# Altium schematic symbol library Transistor_FET.SchLib: 598 symbols (part 3 of 6)
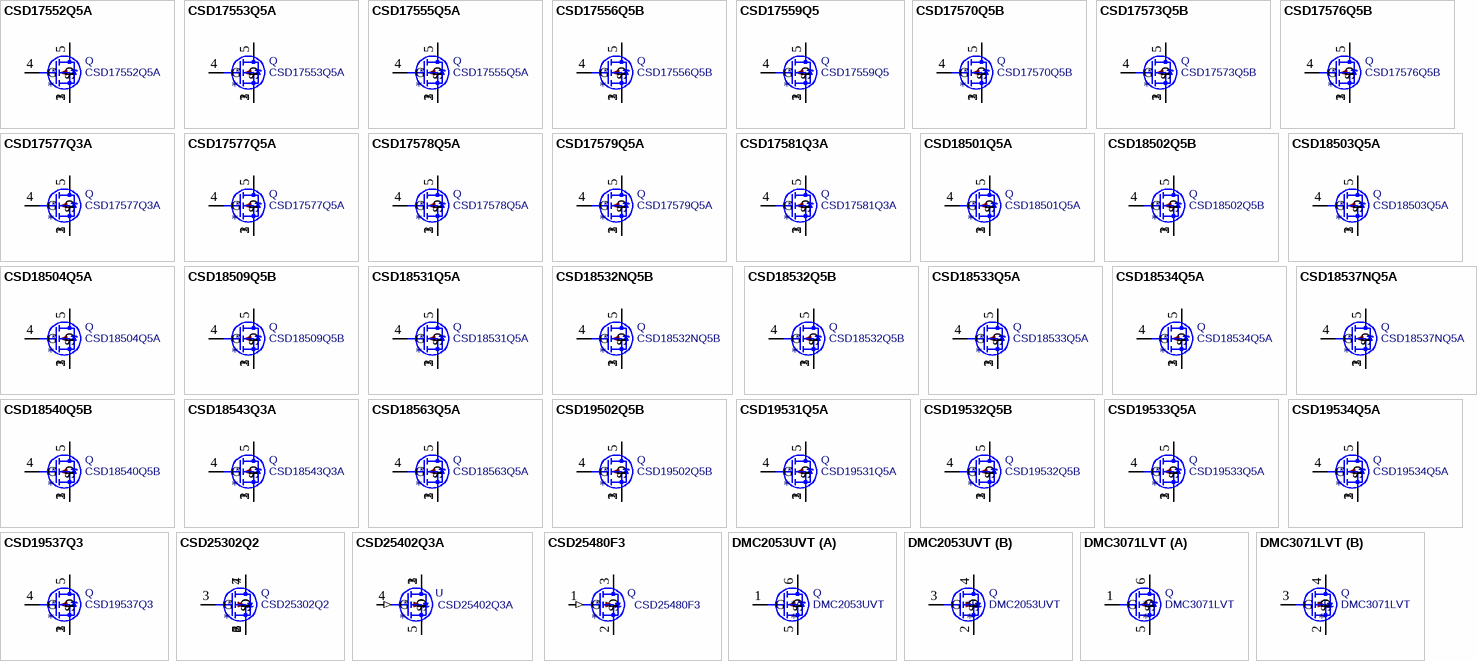
[diagram p18: symbols CSD17552Q5A to DMC3071LVT]

## CSD19502Q5B
designator *  value CSD19502Q5B  Reference: Q
100A Id, 80V Vds, NexFET N-Channel Power MOSFET, 4.1mOhm Ron, 48nC Qg(typ), SON8 5x6mm; ki_keywords: NexFET Power MOSFET N-MOS; ki_fp_filters: TDSON*; Footprint: Package_TO_SOT_SMD:TDSON-8-1; Datasheet: http://www.ti.com/lit/gpn/csd19502q5b; Description_: 100A Id, 80V Vds, NexFET N-Channel Power MOSFET, 4.1mOhm Ron, 48nC Qg(typ), SON8 5x6mm
pins: 1 S, 2 S, 3 S, 4 G, 5 D

## CSD19531Q5A
designator *  value CSD19531Q5A  Reference: Q
100A Id, 100V Vds, NexFET N-Channel Power MOSFET, 6.4mOhm Ron, 37nC Qg(typ), SON8 5x6mm; ki_keywords: NexFET Power MOSFET N-MOS; ki_fp_filters: TDSON*; Footprint: Package_TO_SOT_SMD:TDSON-8-1; Datasheet: http://www.ti.com/lit/gpn/csd19531q5a; Description_: 100A Id, 100V Vds, NexFET N-Channel Power MOSFET, 6.4mOhm Ron, 37nC Qg(typ), SON8 5x6mm
pins: 1 S, 2 S, 3 S, 4 G, 5 D

## CSD19532Q5B
designator *  value CSD19532Q5B  Reference: Q
100A Id, 100V Vds, NexFET N-Channel Power MOSFET, 4.9mOhm Ron, 48nC Qg(typ), SON8 5x6mm; ki_keywords: NexFET Power MOSFET N-MOS; ki_fp_filters: TDSON*; Footprint: Package_TO_SOT_SMD:TDSON-8-1; Datasheet: http://www.ti.com/lit/gpn/csd19532q5b; Description_: 100A Id, 100V Vds, NexFET N-Channel Power MOSFET, 4.9mOhm Ron, 48nC Qg(typ), SON8 5x6mm
pins: 1 S, 2 S, 3 S, 4 G, 5 D

## CSD19533Q5A
designator *  value CSD19533Q5A  Reference: Q
100A Id, 100V Vds, NexFET N-Channel Power MOSFET, 9.5mOhm Ron, 27nC Qg(typ), SON8 5x6mm; ki_keywords: NexFET Power MOSFET N-MOS; ki_fp_filters: TDSON*; Footprint: Package_TO_SOT_SMD:TDSON-8-1; Datasheet: http://www.ti.com/lit/gpn/csd19533q5a; Description_: 100A Id, 100V Vds, NexFET N-Channel Power MOSFET, 9.5mOhm Ron, 27nC Qg(typ), SON8 5x6mm
pins: 1 S, 2 S, 3 S, 4 G, 5 D

## CSD19534Q5A
designator *  value CSD19534Q5A  Reference: Q
50A Id, 100V Vds, NexFET N-Channel Power MOSFET, 15.1mOhm Ron, 17nC Qg(typ), SON8 5x6mm; ki_keywords: NexFET Power MOSFET N-MOS; ki_fp_filters: TDSON*; Footprint: Package_TO_SOT_SMD:TDSON-8-1; Datasheet: http://www.ti.com/lit/gpn/csd19534q5a; Description_: 50A Id, 100V Vds, NexFET N-Channel Power MOSFET, 15.1mOhm Ron, 17nC Qg(typ), SON8 5x6mm
pins: 1 S, 2 S, 3 S, 4 G, 5 D

## CSD19537Q3
designator *  value CSD19537Q3  Reference: Q
50A Id, 100V Vds, NexFET N-Channel Power MOSFET, 13mOhm Ron, Qg Typ 16.0nC, VSON8 3.3x3.3mm; ki_keywords: NexFET Power MOSFET N-MOS; ki_fp_filters: VSON*3.3x3.3mm*P0.65mm*NexFET*; Footprint: Package_SON:VSON-8_3.3x3.3mm_P0.65mm_NexFET; Datasheet: http://www.ti.com/lit/ds/symlink/csd19537q3.pdf; Description_: 50A Id, 100V Vds, NexFET N-Channel Power MOSFET, 13mOhm Ron, Qg Typ 16.0nC, VSON8 3.3x3.3mm
pins: 1 S, 2 S, 3 S, 4 G, 5 D

## CSD25302Q2
designator *  value CSD25302Q2  Reference: Q
-5A Id, -20V Vds, NexFET P-Channel Power MOSFET, 39mOhm Ron, SON-6; ki_keywords: NexFET Power MOSFET P-MOS; ki_fp_filters: Texas*DQK*; Footprint: Package_SON:Texas_DQK; Datasheet: https://www.ti.com/lit/ds/slps234b/slps234b.pdf; Description_: -5A Id, -20V Vds, NexFET P-Channel Power MOSFET, 39mOhm Ron, SON-6
pins: 1 S, 2 S, 3 G, 4 D, 5 S, 6 S, 7 D, 8 S

## CSD25402Q3A
designator *  value CSD25402Q3A  Reference: U
-76A Id, -20V Vds, NexFET P-Channel Power MOSFET, 7.7mOhm Ron, Qg (typ) 7.5 nC, VSON-8 3.3x3.3mm; ki_keywords: P-MOS PMOS single; ki_fp_filters: VSON*3.3x3.3mm*P0.65mm*NexFET*; Footprint: Package_SON:VSON-8_3.3x3.3mm_P0.65mm_NexFET; Datasheet: https://www.ti.com/lit/ds/symlink/csd25402q3a.pdf; Description_: -76A Id, -20V Vds, NexFET P-Channel Power MOSFET, 7.7mOhm Ron, Qg (typ) 7.5 nC, VSON-8 3.3x3.3mm
pins: 1 D, 2 D, 3 D, 4 G (in), 5 S

## CSD25480F3
designator *  value CSD25480F3  Reference: Q
-1.7A Id, -20V Vds, P-Channel MOSFET, 159mOhm Ron,max @ 4.5Vgs, 0.70nC Qg,typ @ 4.5Vgs, PicoStar 0.73x0.64mm max, 0.69x0.60mm nom; ki_keywords: Texas PMOS single; ki_fp_filters: *PicoStar*DFN?3*; Footprint: Package_DFN_QFN:Texas_PicoStar_DFN-3_0.69x0.60mm; Datasheet: https://www.ti.com/lit/ds/symlink/csd25480f3.pdf; Description_: -1.7A Id, -20V Vds, P-Channel MOSFET, 159mOhm Ron,max @ 4.5Vgs, 0.70nC Qg,typ @ 4.5Vgs, PicoStar 0.73x0.64mm max, 0.69x0.60mm nom
pins: 1 G (in), 2 S, 3 D

## DMC2053UVT
designator *  value DMC2053UVT  Reference: Q
4.6A/-3.2A Id, 20V Vds, Complementary pair enhancement mode P-Channel and N-Channel MOSFET, TSOT-23-6; ki_keywords: complementary mosfet; ki_fp_filters: TSOT?23*; Footprint: Package_TO_SOT_SMD:TSOT-23-6; Datasheet: https://www.diodes.com/assets/Datasheets/DMC2053UVT.pdf; Description_: 4.6A/-3.2A Id, 20V Vds, Complementary pair enhancement mode P-Channel and N-Channel MOSFET, TSOT-23-6
part A pins: 1 G, 5 S, 6 D
part B pins: 2 S, 3 G, 4 D

## DMC3071LVT
designator *  value DMC3071LVT  Reference: Q
3.4A/-2.7A Id, 30V Vds, Complementary pair enhancement mode P-Channel and N-Channel MOSFET, TSOT-23-6; ki_keywords: complementary mosfet; ki_fp_filters: TSOT?23*; Footprint: Package_TO_SOT_SMD:TSOT-23-6; Datasheet: https://www.diodes.com/assets/Datasheets/DMC3071LVT.pdf; Description_: 3.4A/-2.7A Id, 30V Vds, Complementary pair enhancement mode P-Channel and N-Channel MOSFET, TSOT-23-6
part A pins: 1 G, 5 S, 6 D
part B pins: 2 S, 3 G, 4 D

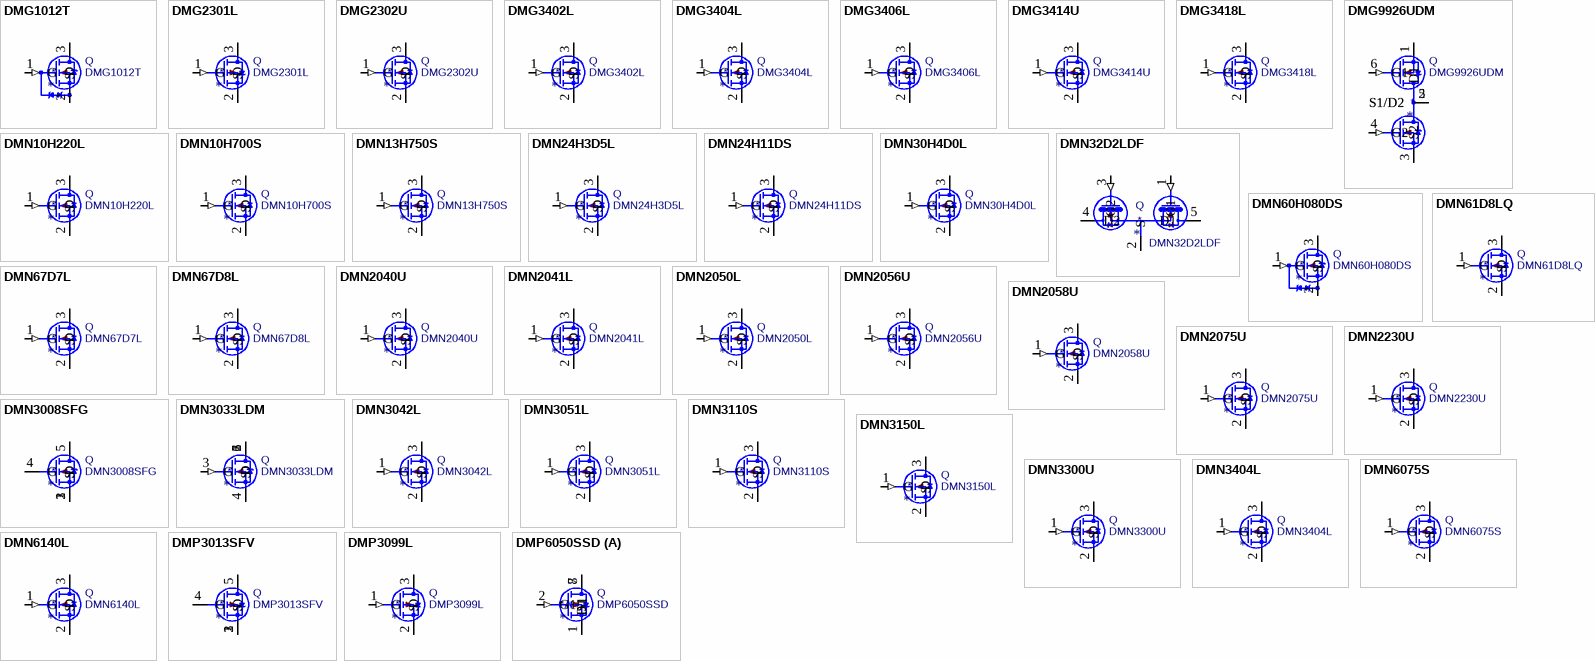
[diagram p6: symbols DMG1012T to DMP6050SSD]

## DMG1012T
designator *  value DMG1012T  Reference: Q
20V Vds, 0.63 Id, N-Channel MOSFET with ESD protection, SOT-523; ki_fp_filters: SOT?523*; Footprint: Package_TO_SOT_SMD:SOT-523; Datasheet: https://www.diodes.com/assets/Datasheets/ds31783.pdf; Description_: 20V Vds, 0.63 Id, N-Channel MOSFET with ESD protection, SOT-523; ki_keywords: N-Channel MOSFET
pins: 1 G (in), 2 S, 3 D

## DMG2301L
designator *  value DMG2301L  Reference: Q
-3A Id, -20V Vds, P-Channel MOSFET, SOT-23; ki_fp_filters: SOT?23*; Footprint: Package_TO_SOT_SMD:SOT-23; Datasheet: https://www.diodes.com/assets/Datasheets/DMG2301L.pdf; Description_: -3A Id, -20V Vds, P-Channel MOSFET, SOT-23; ki_keywords: P-Channel MOSFET
pins: 1 G (in), 2 S, 3 D

## DMG2302U
designator *  value DMG2302U  Reference: Q
4.2A Id, 20V Vds, N-Channel MOSFET, SOT-23; ki_fp_filters: SOT?23*; Footprint: Package_TO_SOT_SMD:SOT-23; Datasheet: http://www.diodes.com/assets/Datasheets/DMG2302U.pdf; Description_: 4.2A Id, 20V Vds, N-Channel MOSFET, SOT-23; ki_keywords: N-Channel MOSFET
pins: 1 G (in), 2 S, 3 D

## DMG3402L
designator *  value DMG3402L  Reference: Q
4A Id, 30V Vds, N-Channel MOSFET, SOT-23; ki_fp_filters: SOT?23*; Footprint: Package_TO_SOT_SMD:SOT-23; Datasheet: http://www.diodes.com/assets/Datasheets/DMG3402L.pdf; Description_: 4A Id, 30V Vds, N-Channel MOSFET, SOT-23; ki_keywords: N-Channel MOSFET
pins: 1 G (in), 2 S, 3 D

## DMG3404L
designator *  value DMG3404L  Reference: Q
5.8A Id, 30V Vds, N-Channel MOSFET, SOT-23; ki_fp_filters: SOT?23*; Footprint: Package_TO_SOT_SMD:SOT-23; Datasheet: http://www.diodes.com/assets/Datasheets/DMG3404L.pdf; Description_: 5.8A Id, 30V Vds, N-Channel MOSFET, SOT-23; ki_keywords: N-Channel MOSFET
pins: 1 G (in), 2 S, 3 D

## DMG3406L
designator *  value DMG3406L  Reference: Q
3.6A Id, 30V Vds, N-Channel MOSFET, SOT-23; ki_fp_filters: SOT?23*; Footprint: Package_TO_SOT_SMD:SOT-23; Datasheet: http://www.diodes.com/assets/Datasheets/DMG3406L.pdf; Description_: 3.6A Id, 30V Vds, N-Channel MOSFET, SOT-23; ki_keywords: N-Channel MOSFET
pins: 1 G (in), 2 S, 3 D

## DMG3414U
designator *  value DMG3414U  Reference: Q
4.2A Id, 20V Vds, N-Channel MOSFET, SOT-23; ki_fp_filters: SOT?23*; Footprint: Package_TO_SOT_SMD:SOT-23; Datasheet: http://www.diodes.com/assets/Datasheets/ds31739.pdf; Description_: 4.2A Id, 20V Vds, N-Channel MOSFET, SOT-23; ki_keywords: N-Channel MOSFET
pins: 1 G (in), 2 S, 3 D

## DMG3418L
designator *  value DMG3418L  Reference: Q
4A Id, 30V Vds, N-Channel MOSFET, SOT-23; ki_fp_filters: SOT?23*; Footprint: Package_TO_SOT_SMD:SOT-23; Datasheet: http://www.diodes.com/assets/Datasheets/DMG3418L.pdf; Description_: 4A Id, 30V Vds, N-Channel MOSFET, SOT-23; ki_keywords: N-Channel MOSFET
pins: 1 G (in), 2 S, 3 D

## DMG9926UDM
designator *  value DMG9926UDM  Reference: Q
4.2A Id, 20V Vds, Common-Drain, Dual Half Bridge N-Channel MOSFET, 28mOhm Ron, SOT-23-6; ki_keywords: Dual Half Bridge N-Channel MOSFET Logic Level Common Drain; ki_fp_filters: SOT?23*; Footprint: Package_TO_SOT_SMD:SOT-23-6; Datasheet: https://www.diodes.com/assets/Datasheets/ds31770.pdf; Description_: 4.2A Id, 20V Vds, Common-Drain, Dual Half Bridge N-Channel MOSFET, 28mOhm Ron, SOT-23-6
pins: 1 D1, 2 S1/D2, 3 S2, 4 G2 (in), 5 S1/D2, 6 G1 (in)

## DMN10H220L
designator *  value DMN10H220L  Reference: Q
1.6A Id, 100V Vds, N-Channel MOSFET, SOT-23; ki_fp_filters: SOT?23*; Footprint: Package_TO_SOT_SMD:SOT-23; Datasheet: http://www.diodes.com/assets/Datasheets/DMN10H220L.pdf; Description_: 1.6A Id, 100V Vds, N-Channel MOSFET, SOT-23; ki_keywords: N-Channel MOSFET
pins: 1 G (in), 2 S, 3 D

## DMN10H700S
designator *  value DMN10H700S  Reference: Q
0.7A Id, 100V Vds, N-Channel MOSFET, SOT-23; ki_fp_filters: SOT?23*; Footprint: Package_TO_SOT_SMD:SOT-23; Datasheet: http://www.diodes.com/assets/Datasheets/DMN10H700S.pdf; Description_: 0.7A Id, 100V Vds, N-Channel MOSFET, SOT-23; ki_keywords: N-Channel MOSFET
pins: 1 G (in), 2 S, 3 D

## DMN13H750S
designator *  value DMN13H750S  Reference: Q
1A Id, 130V Vds, N-Channel MOSFET, SOT-23; ki_fp_filters: SOT?23*; Footprint: Package_TO_SOT_SMD:SOT-23; Datasheet: http://www.diodes.com/assets/Datasheets/DMN13H750S.pdf; Description_: 1A Id, 130V Vds, N-Channel MOSFET, SOT-23; ki_keywords: N-Channel MOSFET
pins: 1 G (in), 2 S, 3 D

## DMN24H3D5L
designator *  value DMN24H3D5L  Reference: Q
0.48A Id, 240V Vds, N-Channel MOSFET, SOT-23; ki_fp_filters: SOT?23*; Footprint: Package_TO_SOT_SMD:SOT-23; Datasheet: http://www.diodes.com/assets/Datasheets/DMN24H3D5L.pdf; Description_: 0.48A Id, 240V Vds, N-Channel MOSFET, SOT-23; ki_keywords: N-Channel MOSFET
pins: 1 G (in), 2 S, 3 D

## DMN24H11DS
designator *  value DMN24H11DS  Reference: Q
0.27A Id, 240V Vds, N-Channel MOSFET, SOT-23; ki_fp_filters: SOT?23*; Footprint: Package_TO_SOT_SMD:SOT-23; Datasheet: http://www.diodes.com/assets/Datasheets/DMN24H11DS.pdf; Description_: 0.27A Id, 240V Vds, N-Channel MOSFET, SOT-23; ki_keywords: N-Channel MOSFET
pins: 1 G (in), 2 S, 3 D

## DMN30H4D0L
designator *  value DMN30H4D0L  Reference: Q
0.25A Id, 300V Vds, N-Channel MOSFET, SOT-23; ki_fp_filters: SOT?23*; Footprint: Package_TO_SOT_SMD:SOT-23; Datasheet: http://www.diodes.com/assets/Datasheets/DMN30H4D0L.pdf; Description_: 0.25A Id, 300V Vds, N-Channel MOSFET, SOT-23; ki_keywords: N-Channel MOSFET
pins: 1 G (in), 2 S, 3 D

## DMN32D2LDF
designator *  value DMN32D2LDF  Reference: Q
Common Source Dual 400mA Id, 30V Vds, N-Channel MOSFET, 1.5Ohm Ron, SOT-353; ki_keywords: N-FET; ki_fp_filters: SOT?353*; Footprint: Package_TO_SOT_SMD:SOT-353_SC-70-5; Datasheet: https://www.diodes.com/assets/Datasheets/ds31238.pdf; Description_: Common Source Dual 400mA Id, 30V Vds, N-Channel MOSFET, 1.5Ohm Ron, SOT-353
pins: 1 G1 (in), 2 S, 3 G2 (in), 4 D2, 5 D1

## DMN60H080DS
designator *  value DMN60H080DS  Reference: Q
600V Vds, 80mA Id, N-Channel MOSFET with ESD protection, SOT-23; ki_fp_filters: SOT?23*; Footprint: Package_TO_SOT_SMD:SOT-23; Datasheet: https://www.diodes.com/assets/Datasheets/DMN60H080DS.pdf; Description_: 600V Vds, 80mA Id, N-Channel MOSFET with ESD protection, SOT-23; ki_keywords: N-Channel MOSFET
pins: 1 G (in), 2 S, 3 D

## DMN61D8LQ
designator *  value DMN61D8LQ  Reference: Q
60V Vds, 0.470A Id, N-Channel MOSFET for switching inductive loads , SOT-23; ki_keywords: N-Channel MOSFET relay logic-level; ki_fp_filters: SOT?23*; Footprint: Package_TO_SOT_SMD:SOT-23; Datasheet: https://www.diodes.com/assets/Datasheets/DMN61D8LQ.pdf; Description_: 60V Vds, 0.470A Id, N-Channel MOSFET for switching inductive loads , SOT-23
pins: 1 G (in), 2 S, 3 D

## DMN67D7L
designator *  value DMN67D7L  Reference: Q
0.21A Id, 60V Vds, N-Channel MOSFET, SOT-23; ki_fp_filters: SOT?23*; Footprint: Package_TO_SOT_SMD:SOT-23; Datasheet: http://www.diodes.com/assets/Datasheets/DMN67D7L.pdf; Description_: 0.21A Id, 60V Vds, N-Channel MOSFET, SOT-23; ki_keywords: N-Channel MOSFET
pins: 1 G (in), 2 S, 3 D

## DMN67D8L
designator *  value DMN67D8L  Reference: Q
0.21A Id, 60V Vds, N-Channel MOSFET, SOT-23; ki_fp_filters: SOT?23*; Footprint: Package_TO_SOT_SMD:SOT-23; Datasheet: http://www.diodes.com/assets/Datasheets/DMN67D8L.pdf; Description_: 0.21A Id, 60V Vds, N-Channel MOSFET, SOT-23; ki_keywords: N-Channel MOSFET
pins: 1 G (in), 2 S, 3 D

## DMN2040U
designator *  value DMN2040U  Reference: Q
20V Vds, 6A Id, N-Channel MOSFET, SOT-23; ki_fp_filters: SOT?23*; Footprint: Package_TO_SOT_SMD:SOT-23; Datasheet: https://www.diodes.com/assets/Datasheets/DMN2040U.pdf; Description_: 20V Vds, 6A Id, N-Channel MOSFET, SOT-23; ki_keywords: N-Channel MOSFET
pins: 1 G (in), 2 S, 3 D

## DMN2041L
designator *  value DMN2041L  Reference: Q
6.4A Id, 20V Vds, N-Channel MOSFET, SOT-23; ki_fp_filters: SOT?23*; Footprint: Package_TO_SOT_SMD:SOT-23; Datasheet: https://www.diodes.com/assets/Datasheets/products_inactive_data/DMN2041L.pdf; Description_: 6.4A Id, 20V Vds, N-Channel MOSFET, SOT-23; ki_keywords: N-Channel MOSFET
pins: 1 G (in), 2 S, 3 D

## DMN2050L
designator *  value DMN2050L  Reference: Q
5.9A Id, 20V Vds, N-Channel MOSFET, SOT-23; ki_fp_filters: SOT?23*; Footprint: Package_TO_SOT_SMD:SOT-23; Datasheet: http://www.diodes.com/assets/Datasheets/ds31502.pdf; Description_: 5.9A Id, 20V Vds, N-Channel MOSFET, SOT-23; ki_keywords: N-Channel MOSFET
pins: 1 G (in), 2 S, 3 D

## DMN2056U
designator *  value DMN2056U  Reference: Q
4A Id, 20V Vds, N-Channel MOSFET, SOT-23; ki_fp_filters: SOT?23*; Footprint: Package_TO_SOT_SMD:SOT-23; Datasheet: http://www.diodes.com/assets/Datasheets/DMN2056U.pdf; Description_: 4A Id, 20V Vds, N-Channel MOSFET, SOT-23; ki_keywords: N-Channel MOSFET
pins: 1 G (in), 2 S, 3 D

## DMN2058U
designator *  value DMN2058U  Reference: Q
4.6A Id, 20V Vds, N-Channel MOSFET, SOT-23; ki_fp_filters: SOT?23*; Footprint: Package_TO_SOT_SMD:SOT-23; Datasheet: http://www.diodes.com/assets/Datasheets/DMN2058U.pdf; Description_: 4.6A Id, 20V Vds, N-Channel MOSFET, SOT-23; ki_keywords: N-Channel MOSFET
pins: 1 G (in), 2 S, 3 D

## DMN2075U
designator *  value DMN2075U  Reference: Q
4.2A Id, 20V Vds, N-Channel MOSFET, SOT-23; ki_fp_filters: SOT?23*; Footprint: Package_TO_SOT_SMD:SOT-23; Datasheet: http://www.diodes.com/assets/Datasheets/DMN2075U.pdf; Description_: 4.2A Id, 20V Vds, N-Channel MOSFET, SOT-23; ki_keywords: N-Channel MOSFET
pins: 1 G (in), 2 S, 3 D

## DMN2230U
designator *  value DMN2230U  Reference: Q
2A Id, 20V Vds, N-Channel MOSFET, SOT-23; ki_fp_filters: SOT?23*; Footprint: Package_TO_SOT_SMD:SOT-23; Datasheet: http://www.diodes.com/assets/Datasheets/ds31180.pdf; Description_: 2A Id, 20V Vds, N-Channel MOSFET, SOT-23; ki_keywords: N-Channel MOSFET
pins: 1 G (in), 2 S, 3 D

## DMN3008SFG
designator *  value DMN3008SFG  Reference: Q
17.6A Id, 30V Vds, N-Channel Power MOSFET, 4.4mOhm Ron, 86nC Qg (typ), PowerDI3333-8; ki_keywords: N-Channel MOSFET; ki_fp_filters: Diodes*PowerDI3333*; Footprint: Package_SON:Diodes_PowerDI3333-8; Datasheet: https://www.diodes.com/assets/Datasheets/DMN3008SFG.pdf; Description_: 17.6A Id, 30V Vds, N-Channel Power MOSFET, 4.4mOhm Ron, 86nC Qg (typ), PowerDI3333-8
pins: 1 S, 2 S, 3 S, 4 G, 5 D

## DMN3033LDM
designator *  value DMN3033LDM  Reference: Q
6.9A Id, 30V Vds, N-Channel MOSFET, SOT-23-6; ki_fp_filters: SOT?23*; Footprint: Package_TO_SOT_SMD:SOT-23-6; Datasheet: https://www.diodes.com/assets/Datasheets/ds31345.pdf; Description_: 6.9A Id, 30V Vds, N-Channel MOSFET, SOT-23-6; ki_keywords: N-Channel MOSFET
pins: 1 D, 2 D, 3 G (in), 4 S, 5 D, 6 D

## DMN3042L
designator *  value DMN3042L  Reference: Q
5.8A Id, 30V Vds, N-Channel MOSFET, SOT-23; ki_fp_filters: SOT?23*; Footprint: Package_TO_SOT_SMD:SOT-23; Datasheet: http://www.diodes.com/assets/Datasheets/DMN3042L.pdf; Description_: 5.8A Id, 30V Vds, N-Channel MOSFET, SOT-23; ki_keywords: N-Channel MOSFET
pins: 1 G (in), 2 S, 3 D

## DMN3051L
designator *  value DMN3051L  Reference: Q
5.8A Id, 30V Vds, N-Channel MOSFET, SOT-23; ki_fp_filters: SOT?23*; Footprint: Package_TO_SOT_SMD:SOT-23; Datasheet: http://www.diodes.com/assets/Datasheets/ds31347.pdf; Description_: 5.8A Id, 30V Vds, N-Channel MOSFET, SOT-23; ki_keywords: N-Channel MOSFET
pins: 1 G (in), 2 S, 3 D

## DMN3110S
designator *  value DMN3110S  Reference: Q
3.3A Id, 30V Vds, N-Channel MOSFET, SOT-23; ki_fp_filters: SOT?23*; Footprint: Package_TO_SOT_SMD:SOT-23; Datasheet: http://www.diodes.com/assets/Datasheets/DMN3110S.pdf; Description_: 3.3A Id, 30V Vds, N-Channel MOSFET, SOT-23; ki_keywords: N-Channel MOSFET
pins: 1 G (in), 2 S, 3 D

## DMN3150L
designator *  value DMN3150L  Reference: Q
3.8A Id, 30V Vds, N-Channel MOSFET, SOT-23; ki_fp_filters: SOT?23*; Footprint: Package_TO_SOT_SMD:SOT-23; Datasheet: http://www.diodes.com/assets/Datasheets/ds31126.pdf; Description_: 3.8A Id, 30V Vds, N-Channel MOSFET, SOT-23; ki_keywords: N-Channel MOSFET
pins: 1 G (in), 2 S, 3 D

## DMN3300U
designator *  value DMN3300U  Reference: Q
2A Id, 30V Vds, N-Channel MOSFET, SOT-23; ki_fp_filters: SOT?23*; Footprint: Package_TO_SOT_SMD:SOT-23; Datasheet: http://www.diodes.com/assets/Datasheets/ds31181.pdf; Description_: 2A Id, 30V Vds, N-Channel MOSFET, SOT-23; ki_keywords: N-Channel MOSFET
pins: 1 G (in), 2 S, 3 D

## DMN3404L
designator *  value DMN3404L  Reference: Q
5.8A Id, 30V Vds, N-Channel MOSFET, SOT-23; ki_fp_filters: SOT?23*; Footprint: Package_TO_SOT_SMD:SOT-23; Datasheet: http://www.diodes.com/assets/Datasheets/ds31787.pdf; Description_: 5.8A Id, 30V Vds, N-Channel MOSFET, SOT-23; ki_keywords: N-Channel MOSFET
pins: 1 G (in), 2 S, 3 D

## DMN6075S
designator *  value DMN6075S  Reference: Q
2.5A Id, 60V Vds, N-Channel MOSFET, SOT-23; ki_fp_filters: SOT?23*; Footprint: Package_TO_SOT_SMD:SOT-23; Datasheet: http://www.diodes.com/assets/Datasheets/DMN6075S.pdf; Description_: 2.5A Id, 60V Vds, N-Channel MOSFET, SOT-23; ki_keywords: N-Channel MOSFET
pins: 1 G (in), 2 S, 3 D

## DMN6140L
designator *  value DMN6140L  Reference: Q
2.3A Id, 60V Vds, N-Channel MOSFET, SOT-23; ki_fp_filters: SOT?23*; Footprint: Package_TO_SOT_SMD:SOT-23; Datasheet: http://www.diodes.com/assets/Datasheets/DMN6140L.pdf; Description_: 2.3A Id, 60V Vds, N-Channel MOSFET, SOT-23; ki_keywords: N-Channel MOSFET
pins: 1 G (in), 2 S, 3 D

## DMP3013SFV
designator *  value DMP3013SFV  Reference: Q
-12A Id, -30V Vds, P-Channel Power MOSFET, 9.5mOhm Ron, 33.7nC Qg (typ), PowerDI3333-8; ki_keywords: P-Channel MOSFET; ki_fp_filters: Diodes*PowerDI3333*; Footprint: Package_SON:Diodes_PowerDI3333-8; Datasheet: https://www.diodes.com/assets/Datasheets/DMP3013SFV.pdf; Description_: -12A Id, -30V Vds, P-Channel Power MOSFET, 9.5mOhm Ron, 33.7nC Qg (typ), PowerDI3333-8
pins: 1 S, 2 S, 3 S, 4 G, 5 D

## DMP3099L
designator *  value DMP3099L  Reference: Q
-3.8A Id, -30V Vds, P-Channel MOSFET, SOT-23; ki_fp_filters: SOT?23*; Footprint: Package_TO_SOT_SMD:SOT-23; Datasheet: https://www.diodes.com/assets/Datasheets/DMP3099L.pdf; Description_: -3.8A Id, -30V Vds, P-Channel MOSFET, SOT-23; ki_keywords: P-Channel MOSFET
pins: 1 G (in), 2 S, 3 D

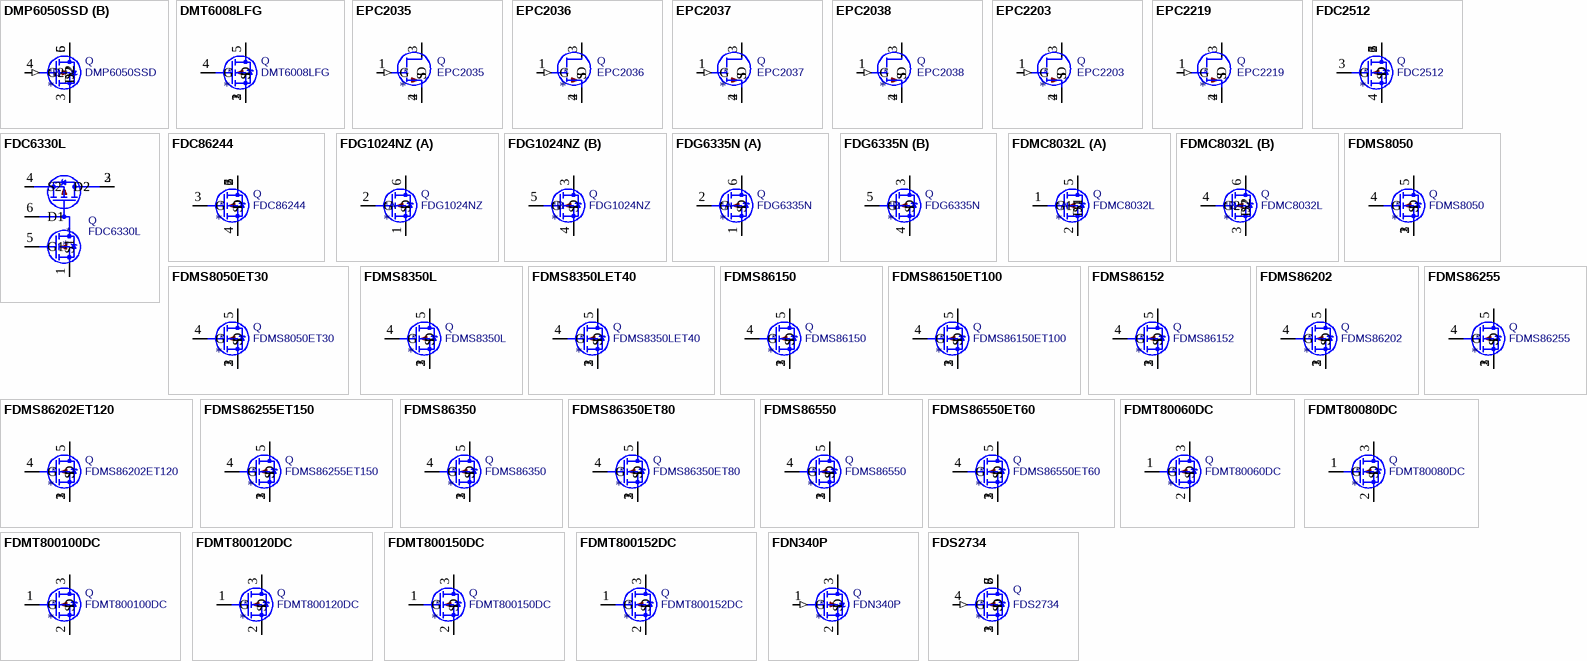
[diagram p7: symbols DMP6050SSD to FDS2734]

## DMP6050SSD
designator *  value DMP6050SSD  Reference: Q
-11.3A Id, -60V Vds, P-Channel Power MOSFET, 55mOhm Ron, 11.9nC Qg (typ), SO-8; ki_keywords: Dual PMOS P-MOS; ki_fp_filters: SOIC*3.9x4.9mm*P1.27mm*; Footprint: Package_SO:SOIC-8_3.9x4.9mm_P1.27mm; Datasheet: https://www.diodes.com/assets/Datasheets/DMP6050SSD.pdf; Description_: -11.3A Id, -60V Vds, P-Channel Power MOSFET, 55mOhm Ron, 11.9nC Qg (typ), SO-8
part A pins: 1 S1, 2 G1 (in), 7 D1, 8 D1
part B pins: 3 S2, 4 G2 (in), 5 D2, 6 D2

## DMT6008LFG
designator *  value DMT6008LFG  Reference: Q
60A Id, 60V Vds, N-Channel Enhancement Mode MOSFET, 7.5mOhm Ron, 50.4nC Qg(typ), PowerDI-3333-8; ki_keywords: Power MOSFET N-MOS; ki_fp_filters: Diodes*PowerDI3333*; Footprint: Package_SON:Diodes_PowerDI3333-8; Datasheet: https://www.diodes.com/assets/Datasheets/DMT6008LFG.pdf; Description_: 60A Id, 60V Vds, N-Channel Enhancement Mode MOSFET, 7.5mOhm Ron, 50.4nC Qg(typ), PowerDI-3333-8
pins: 1 S, 2 S, 3 S, 4 G, 5 D

## EPC2035
designator *  value EPC2035  Reference: Q
60 V E-mode GaN transistor, RdsOn 45 mOhm, 1.7A Id, EPC_BGA-4_0.9x0.9mm; ki_keywords: hemt enhancement; ki_fp_filters: EPC?BGA*0.9x0.9mm?Layout2x2?P0.45mm*; Footprint: Package_BGA:EPC_BGA-4_0.9x0.9mm_Layout2x2_P0.45mm; Datasheet: https://epc-co.com/epc/Portals/0/epc/documents/datasheets/EPC2035_datasheet.pdf; Description_: 60 V E-mode GaN transistor, RdsOn 45 mOhm, 1.7A Id, EPC_BGA-4_0.9x0.9mm
pins: 1 G (in), 2 S, 3 D, 4 S

## EPC2036
designator *  value EPC2036  Reference: Q
100 V E-mode GaN transistor, RdsOn 73 mOhm, 1.7A Id, EPC_BGA-4_0.9x0.9mm; ki_keywords: hemt enhancement; ki_fp_filters: EPC?BGA*0.9x0.9mm?Layout2x2?P0.45mm*; Footprint: Package_BGA:EPC_BGA-4_0.9x0.9mm_Layout2x2_P0.45mm; Datasheet: https://epc-co.com/epc/Portals/0/epc/documents/datasheets/EPC2036_datasheet.pdf; Description_: 100 V E-mode GaN transistor, RdsOn 73 mOhm, 1.7A Id, EPC_BGA-4_0.9x0.9mm
pins: 1 G (in), 2 S, 3 D, 4 S

## EPC2037
designator *  value EPC2037  Reference: Q
100 V E-mode GaN transistor, RdsOn 550 mOhm, 1.7A Id, EPC_BGA-4_0.9x0.9mm; ki_keywords: hemt enhancement; ki_fp_filters: EPC?BGA*0.9x0.9mm?Layout2x2?P0.45mm*; Footprint: Package_BGA:EPC_BGA-4_0.9x0.9mm_Layout2x2_P0.45mm; Datasheet: https://epc-co.com/epc/Portals/0/epc/documents/datasheets/EPC2037_datasheet.pdf; Description_: 100 V E-mode GaN transistor, RdsOn 550 mOhm, 1.7A Id, EPC_BGA-4_0.9x0.9mm
pins: 1 G (in), 2 S, 3 D, 4 S

## EPC2038
designator *  value EPC2038  Reference: Q
100 V E-mode GaN transistor, RdsOn 3.3 Ohm, 0.5A Id, Integrated Reverse Gate Clamp Diode, EPC_BGA-4_0.9x0.9mm; ki_keywords: hemt enhancement; ki_fp_filters: EPC?BGA*0.9x0.9mm?Layout2x2?P0.45mm*; Footprint: Package_BGA:EPC_BGA-4_0.9x0.9mm_Layout2x2_P0.45mm; Datasheet: https://epc-co.com/epc/Portals/0/epc/documents/datasheets/EPC2038_datasheet.pdf; Description_: 100 V E-mode GaN transistor, RdsOn 3.3 Ohm, 0.5A Id, Integrated Reverse Gate Clamp Diode, EPC_BGA-4_0.9x0.9mm
pins: 1 G (in), 2 S, 3 D, 4 S

## EPC2203
designator *  value EPC2203  Reference: Q
80 V E-mode GaN transistor, RdsOn 80 mOhm, 1.7A Id, EPC_BGA-4_0.9x0.9mm; ki_keywords: hemt enhancement; ki_fp_filters: EPC?BGA*0.9x0.9mm?Layout2x2?P0.45mm*; Footprint: Package_BGA:EPC_BGA-4_0.9x0.9mm_Layout2x2_P0.45mm; Datasheet: https://epc-co.com/epc/Portals/0/epc/documents/datasheets/EPC2203_datasheet.pdf; Description_: 80 V E-mode GaN transistor, RdsOn 80 mOhm, 1.7A Id, EPC_BGA-4_0.9x0.9mm
pins: 1 G (in), 2 S, 3 D, 4 S

## EPC2219
designator *  value EPC2219  Reference: Q
65 V E-mode GaN transistor, RdsOn 3.3 Ohm, 0.5A Id, Integrated Reverse Gate Clamp Diode, EPC_BGA-4_0.9x0.9mm; ki_keywords: hemt enhancement; ki_fp_filters: EPC?BGA*0.9x0.9mm?Layout2x2?P0.45mm*; Footprint: Package_BGA:EPC_BGA-4_0.9x0.9mm_Layout2x2_P0.45mm; Datasheet: https://epc-co.com/epc/Portals/0/epc/documents/datasheets/EPC2219_datasheet.pdf; Description_: 65 V E-mode GaN transistor, RdsOn 3.3 Ohm, 0.5A Id, Integrated Reverse Gate Clamp Diode, EPC_BGA-4_0.9x0.9mm
pins: 1 G (in), 2 S, 3 D, 4 S

## FDC2512
designator *  value FDC2512  Reference: Q
1.4A Id, 150V Vds, N-Channel MOSFET, 425mOhm Ron, SuperSOT-6; ki_fp_filters: SuperSOT*; Footprint: Package_TO_SOT_SMD:SuperSOT-6; Datasheet: https://www.onsemi.com/pub/Collateral/FDC2512-D.pdf; Description_: 1.4A Id, 150V Vds, N-Channel MOSFET, 425mOhm Ron, SuperSOT-6; ki_keywords: N-Channel MOSFET
pins: 1 D, 2 D, 3 G, 4 S, 5 D, 6 D

## FDC6330L
designator *  value FDC6330L  Reference: Q
-2.3A, 20V Vds, Integrated load switch, P-Channel MOSFET driven by small N-Channel MOSFET, TSOT-23-6; ki_keywords: complementary mosfet; ki_fp_filters: TSOT?23*; Footprint: Package_TO_SOT_SMD:TSOT-23-6; Datasheet: https://www.onsemi.com/pub/Collateral/FDC6330L-D.PDF; Description_: -2.3A, 20V Vds, Integrated load switch, P-Channel MOSFET driven by small N-Channel MOSFET, TSOT-23-6
pins: 1 S1, 2 D2, 3 D2, 4 S2, 5 G1, 6 D1

## FDC86244
designator *  value FDC86244  Reference: Q
2.3A Id, 150V Vds, N-Channel MOSFET, 144mOhm Ron, SuperSOT-6; ki_fp_filters: SuperSOT*; Footprint: Package_TO_SOT_SMD:SuperSOT-6; Datasheet: https://www.onsemi.com/pub/Collateral/FDC86244-D.pdf; Description_: 2.3A Id, 150V Vds, N-Channel MOSFET, 144mOhm Ron, SuperSOT-6; ki_keywords: N-Channel MOSFET
pins: 1 D, 2 D, 3 G, 4 S, 5 D, 6 D

## FDG1024NZ
designator *  value FDG1024NZ  Reference: Q
1.2A Id, 20V Vds, Dual N-Channel MOSFET, 175mOhm Ron, SC-70-6; ki_keywords: Dual N-Channel MOSFET Logic Level; ki_fp_filters: SOT?363*; Footprint: Package_TO_SOT_SMD:SOT-363_SC-70-6; Datasheet: https://www.onsemi.com/pub/Collateral/FDG1024NZ-D.pdf; Description_: 1.2A Id, 20V Vds, Dual N-Channel MOSFET, 175mOhm Ron, SC-70-6
part A pins: 1 S, 2 G, 6 D
part B pins: 3 D, 4 S, 5 G

## FDG6335N
designator *  value FDG6335N  Reference: Q
0.7A Id, 20V Vds, Dual N-Channel MOSFET, 300mOhm Ron, SC-70-6; ki_fp_filters: SOT?363*; Footprint: Package_TO_SOT_SMD:SOT-363_SC-70-6; Datasheet: http://www.gneic.com/product/datasheet/FDG6335N-1122853.pdf; Description_: 0.7A Id, 20V Vds, Dual N-Channel MOSFET, 300mOhm Ron, SC-70-6; ki_keywords: Dual N-Channel MOSFET
part A pins: 1 S, 2 G, 6 D
part B pins: 3 D, 4 S, 5 G

## FDMC8032L
designator *  value FDMC8032L  Reference: Q
7A Id, 40V Vds, Dual N-Channel MOSFET, 20mOhm Ron, Power33 Package; ki_fp_filters: Fairchild*DualPower33*3x3mm*; Footprint: Package_SON:Fairchild_DualPower33-6_3x3mm; Datasheet: https://www.onsemi.com/pub/Collateral/FDMC8032L-D.PDF; Description_: 7A Id, 40V Vds, Dual N-Channel MOSFET, 20mOhm Ron, Power33 Package; ki_keywords: Dual N-Channel MOSFET
part A pins: 1 G1, 2 S1, 5 D1
part B pins: 3 S2, 4 G2, 6 D2

## FDMS8050
designator *  value FDMS8050  Reference: Q
55A Id, 30V Vds, N-Channel PowerTrench MOSFET, 0.65mOhm Ron, 285nC Qgmax, -55 to 150 °C, 5x6mm SON8; ki_keywords: powertrench MOSFET fairchild; ki_fp_filters: TDSON*; Footprint: Package_TO_SOT_SMD:TDSON-8-1; Datasheet: https://www.onsemi.com/pub/Collateral/FDMS8050-D.pdf; Description_: 55A Id, 30V Vds, N-Channel PowerTrench MOSFET, 0.65mOhm Ron, 285nC Qgmax, -55 to 150 °C, 5x6mm SON8
pins: 1 S, 2 S, 3 S, 4 G, 5 D

## FDMS8050ET30
designator *  value FDMS8050ET30  Reference: Q
55A Id, 30V Vds, N-Channel PowerTrench MOSFET, 0.65mOhm Ron, 285nC Qgmax, -55 to 175 °C, 5x6mm SON8; ki_keywords: powertrench MOSFET fairchild; ki_fp_filters: TDSON*; Footprint: Package_TO_SOT_SMD:TDSON-8-1; Datasheet: https://www.onsemi.com/pub/Collateral/FDMS8050ET30-D.pdf; Description_: 55A Id, 30V Vds, N-Channel PowerTrench MOSFET, 0.65mOhm Ron, 285nC Qgmax, -55 to 175 °C, 5x6mm SON8
pins: 1 S, 2 S, 3 S, 4 G, 5 D

## FDMS8350L
designator *  value FDMS8350L  Reference: Q
47A Id, 40V Vds, N-Channel PowerTrench MOSFET, 0.85mOhm Ron, 242nC Qgmax, -55 to 150 °C, 5x6mm SON8; ki_keywords: powertrench MOSFET fairchild; ki_fp_filters: TDSON*; Footprint: Package_TO_SOT_SMD:TDSON-8-1; Datasheet: https://www.onsemi.com/pub/Collateral/FDMS8350L-D.pdf; Description_: 47A Id, 40V Vds, N-Channel PowerTrench MOSFET, 0.85mOhm Ron, 242nC Qgmax, -55 to 150 °C, 5x6mm SON8
pins: 1 S, 2 S, 3 S, 4 G, 5 D

## FDMS8350LET40
designator *  value FDMS8350LET40  Reference: Q
49A Id, 40V Vds, N-Channel PowerTrench MOSFET, 0.85mOhm Ron, 242nC Qgmax, -55 to 175 °C, 5x6mm SON8; ki_keywords: powertrench-MOSFET MOSFET fairchild; ki_fp_filters: TDSON*; Footprint: Package_TO_SOT_SMD:TDSON-8-1; Datasheet: https://www.onsemi.com/pub/Collateral/FDMS8350LET40-D.pdf; Description_: 49A Id, 40V Vds, N-Channel PowerTrench MOSFET, 0.85mOhm Ron, 242nC Qgmax, -55 to 175 °C, 5x6mm SON8
pins: 1 S, 2 S, 3 S, 4 G, 5 D

## FDMS86150
designator *  value FDMS86150  Reference: Q
16A Id, 100V Vds, N-Channel PowerTrench MOSFET, 4.85mOhm Ron, 62nC Qgmax, -55 to 150 °C, 5x6mm SON8; ki_keywords: powertrench MOSFET fairchild; ki_fp_filters: TDSON*; Footprint: Package_TO_SOT_SMD:TDSON-8-1; Datasheet: https://www.onsemi.com/pub/Collateral/FDMS86150ET100-D.pdf; Description_: 16A Id, 100V Vds, N-Channel PowerTrench MOSFET, 4.85mOhm Ron, 62nC Qgmax, -55 to 150 °C, 5x6mm SON8
pins: 1 S, 2 S, 3 S, 4 G, 5 D

## FDMS86150ET100
designator *  value FDMS86150ET100  Reference: Q
16A Id, 100V Vds, N-Channel PowerTrench MOSFET, 4.85mOhm Ron, 62nC Qgmax, -55 to 175 °C, 5x6mm SON8; ki_keywords: powertrench-MOSFET MOSFET fairchild; ki_fp_filters: TDSON*; Footprint: Package_TO_SOT_SMD:TDSON-8-1; Datasheet: https://www.mouser.fr/datasheet/2/308/FDMS86150ET100-D-1807744.pdf; Description_: 16A Id, 100V Vds, N-Channel PowerTrench MOSFET, 4.85mOhm Ron, 62nC Qgmax, -55 to 175 °C, 5x6mm SON8
pins: 1 S, 2 S, 3 S, 4 G, 5 D

## FDMS86152
designator *  value FDMS86152  Reference: Q
14A Id, 100V Vds, N-Channel PowerTrench MOSFET, 6mOhm Ron, 50nC Qgmax, -55 to 150 °C, 5x6mm SON8; ki_keywords: powertrench MOSFET fairchild; ki_fp_filters: TDSON*; Footprint: Package_TO_SOT_SMD:TDSON-8-1; Datasheet: https://www.mouser.fr/datasheet/2/308/FDMS86152-D-1808412.pdf; Description_: 14A Id, 100V Vds, N-Channel PowerTrench MOSFET, 6mOhm Ron, 50nC Qgmax, -55 to 150 °C, 5x6mm SON8
pins: 1 S, 2 S, 3 S, 4 G, 5 D

## FDMS86202
designator *  value FDMS86202  Reference: Q
13.5A Id, 120V Vds, N-Channel Shielded Gate PowerTrench MOSFET, 7.2mOhm Ron, 64nC Qgmax, -55 to 150 °C, 5x6mm SON8; ki_keywords: shielded-gate-powertrench MOSFET fairchild; ki_fp_filters: TDSON*; Footprint: Package_TO_SOT_SMD:TDSON-8-1; Datasheet: https://www.mouser.fr/datasheet/2/308/FDMS86202-D-1808220.pdf; Description_: 13.5A Id, 120V Vds, N-Channel Shielded Gate PowerTrench MOSFET, 7.2mOhm Ron, 64nC Qgmax, -55 to 150 °C, 5x6mm SON8
pins: 1 S, 2 S, 3 S, 4 G, 5 D

## FDMS86202ET120
designator *  value FDMS86202ET120  Reference: Q
13.5A Id, 120V Vds, N-Channel Shielded Gate PowerTrench MOSFET, 7.2mOhm Ron, 64nC Qgmax, -55 to 175 °C, 5x6mm SON8; ki_keywords: shielded-gate-powertrench MOSFET fairchild; ki_fp_filters: TDSON*; Footprint: Package_TO_SOT_SMD:TDSON-8-1; Datasheet: https://www.onsemi.com/pub/Collateral/FDMS86202ET120-D.pdf; Description_: 13.5A Id, 120V Vds, N-Channel Shielded Gate PowerTrench MOSFET, 7.2mOhm Ron, 64nC Qgmax, -55 to 175 °C, 5x6mm SON8
pins: 1 S, 2 S, 3 S, 4 G, 5 D

## FDMS86255
designator *  value FDMS86255  Reference: Q
10A Id, 150V Vds, N-Channel Shielded Gate PowerTrench MOSFET, 12.4mOhm Ron, 63nC Qgmax, -55 to 150 °C, 5x6mm SON8; ki_keywords: shielded-gate-powertrench-MOSFET MOSFET fairchild; ki_fp_filters: TDSON*; Footprint: Package_TO_SOT_SMD:TDSON-8-1; Datasheet: https://www.onsemi.com/pub/Collateral/FDMS86255-D.pdf; Description_: 10A Id, 150V Vds, N-Channel Shielded Gate PowerTrench MOSFET, 12.4mOhm Ron, 63nC Qgmax, -55 to 150 °C, 5x6mm SON8
pins: 1 S, 2 S, 3 S, 4 G, 5 D

## FDMS86255ET150
designator *  value FDMS86255ET150  Reference: Q
10A Id, 150V Vds, N-Channel Shielded Gate PowerTrench MOSFET, 12.4mOhm Ron, 63nC Qgmax, -55 to 175 °C, 5x6mm SON8; ki_keywords: shielded-gate-powertrench MOSFET fairchild; ki_fp_filters: TDSON*; Footprint: Package_TO_SOT_SMD:TDSON-8-1; Datasheet: https://www.onsemi.com/pub/Collateral/FDMS86255ET150-D.pdf; Description_: 10A Id, 150V Vds, N-Channel Shielded Gate PowerTrench MOSFET, 12.4mOhm Ron, 63nC Qgmax, -55 to 175 °C, 5x6mm SON8
pins: 1 S, 2 S, 3 S, 4 G, 5 D

## FDMS86350
designator *  value FDMS86350  Reference: Q
25A Id, 80V Vds, N-Channel PowerTrench MOSFET, 2.4mOhm Ron, 155nC Qgmax, -55 to 150 °C, 5x6mm SON8; ki_keywords: powertrench MOSFET fairchild; ki_fp_filters: TDSON*; Footprint: Package_TO_SOT_SMD:TDSON-8-1; Datasheet: https://www.onsemi.com/pub/Collateral/FDMS86350-D.PDF; Description_: 25A Id, 80V Vds, N-Channel PowerTrench MOSFET, 2.4mOhm Ron, 155nC Qgmax, -55 to 150 °C, 5x6mm SON8
pins: 1 S, 2 S, 3 S, 4 G, 5 D

## FDMS86350ET80
designator *  value FDMS86350ET80  Reference: Q
25A Id, 80V Vds, N-Channel PowerTrench MOSFET, 2.4mOhm Ron, 155nC Qgmax, -55 to 175 °C, 5x6mm SON8; ki_keywords: powertrench MOSFET fairchild; ki_fp_filters: TDSON*; Footprint: Package_TO_SOT_SMD:TDSON-8-1; Datasheet: https://www.onsemi.com/pub/Collateral/FDMS86350ET80-D.pdf; Description_: 25A Id, 80V Vds, N-Channel PowerTrench MOSFET, 2.4mOhm Ron, 155nC Qgmax, -55 to 175 °C, 5x6mm SON8
pins: 1 S, 2 S, 3 S, 4 G, 5 D

## FDMS86550
designator *  value FDMS86550  Reference: Q
32A Id, 60V Vds, N-Channel PowerTrench MOSFET, 1.65mOhm Ron, 154nC Qgmax, -55 to 150 °C, 5x6mm SON8; ki_keywords: powertrench MOSFET fairchild; ki_fp_filters: TDSON*; Footprint: Package_TO_SOT_SMD:TDSON-8-1; Datasheet: https://www.onsemi.com/pub/Collateral/FDMS86550-D.pdf; Description_: 32A Id, 60V Vds, N-Channel PowerTrench MOSFET, 1.65mOhm Ron, 154nC Qgmax, -55 to 150 °C, 5x6mm SON8
pins: 1 S, 2 S, 3 S, 4 G, 5 D

## FDMS86550ET60
designator *  value FDMS86550ET60  Reference: Q
32A Id, 60V Vds, N-Channel PowerTrench MOSFET, 1.65mOhm Ron, 154nC Qgmax, -55 to 175 °C, 5x6mm SON8; ki_keywords: powertrench MOSFET fairchild; ki_fp_filters: TDSON*; Footprint: Package_TO_SOT_SMD:TDSON-8-1; Datasheet: https://www.onsemi.com/pub/Collateral/FDMS86550ET60-D.pdf; Description_: 32A Id, 60V Vds, N-Channel PowerTrench MOSFET, 1.65mOhm Ron, 154nC Qgmax, -55 to 175 °C, 5x6mm SON8
pins: 1 S, 2 S, 3 S, 4 G, 5 D

## FDMT80060DC
designator *  value FDMT80060DC  Reference: Q
43A Id, 60V Vds, PowerTrench N-Channel Power MOSFET, 6.9mOhm Ron, Qg (typ) 7.9nC 8x8mm MLP; ki_keywords: PowerTrench Power MOSFET N-MOS; ki_fp_filters: PQFN*8x8*; Footprint: Package_TO_SOT_SMD:PQFN_8x8; Datasheet: https://www.onsemi.com/pub/Collateral/FDMT80060DC-D.pdf; Description_: 43A Id, 60V Vds, PowerTrench N-Channel Power MOSFET, 6.9mOhm Ron, Qg (typ) 7.9nC 8x8mm MLP
pins: 1 G, 2 S, 3 D

## FDMT80080DC
designator *  value FDMT80080DC  Reference: Q
36A Id, 80V Vds, N-Channel Dual Cool PowerTrench MOSFET, 1.35mOhm Ron, 273nC Qgmax, -55 to 150 °C, 8x8mm MLP; ki_keywords: dual-cool-powertrench MOSFET fairchild; ki_fp_filters: PQFN*8x8*; Footprint: Package_TO_SOT_SMD:PQFN_8x8; Datasheet: https://www.onsemi.com/pub/Collateral/FDMT80080DC-D.pdf; Description_: 36A Id, 80V Vds, N-Channel Dual Cool PowerTrench MOSFET, 1.35mOhm Ron, 273nC Qgmax, -55 to 150 °C, 8x8mm MLP
pins: 1 G, 2 S, 3 D

## FDMT800100DC
designator *  value FDMT800100DC  Reference: Q
24A Id, 100V Vds, N-Channel Dual Cool PowerTrench MOSFET, 2.95mOhm Ron, 111nC Qgmax, -55 to 150 °C, 8x8mm MLP; ki_keywords: dual-cool-powertrench MOSFET fairchild; ki_fp_filters: PQFN*8x8*; Footprint: Package_TO_SOT_SMD:PQFN_8x8; Datasheet: https://www.onsemi.com/pub/Collateral/FDMT800100DC-D.pdf; Description_: 24A Id, 100V Vds, N-Channel Dual Cool PowerTrench MOSFET, 2.95mOhm Ron, 111nC Qgmax, -55 to 150 °C, 8x8mm MLP
pins: 1 G, 2 S, 3 D

## FDMT800120DC
designator *  value FDMT800120DC  Reference: Q
20A Id, 120V Vds, N-Channel Dual cool 88 PowerTrench MOSFET, 4.2mOhm Ron, 107nC Qgmax, -55 to 150 °C, 8x8mm MLP; ki_keywords: dual-cool-powertrench MOSFET fairchild; ki_fp_filters: PQFN*8x8*; Footprint: Package_TO_SOT_SMD:PQFN_8x8; Datasheet: https://www.onsemi.com/pub/Collateral/FDMT800120DC-D.pdf; Description_: 20A Id, 120V Vds, N-Channel Dual cool 88 PowerTrench MOSFET, 4.2mOhm Ron, 107nC Qgmax, -55 to 150 °C, 8x8mm MLP
pins: 1 G, 2 S, 3 D

## FDMT800150DC
designator *  value FDMT800150DC  Reference: Q
15A Id, 150V Vds, N-Channel Dual cool PowerTrench MOSFET, 6.5mOhm Ron, 108nC Qgmax, -55 to 150 °C, 8x8mm MLP; ki_keywords: dual-cool-powertrench MOSFET fairchild; ki_fp_filters: PQFN*8x8*; Footprint: Package_TO_SOT_SMD:PQFN_8x8; Datasheet: https://www.onsemi.com/pub/Collateral/FDMT800150DC-D.pdf; Description_: 15A Id, 150V Vds, N-Channel Dual cool PowerTrench MOSFET, 6.5mOhm Ron, 108nC Qgmax, -55 to 150 °C, 8x8mm MLP
pins: 1 G, 2 S, 3 D

## FDMT800152DC
designator *  value FDMT800152DC  Reference: Q
13A Id, 150V Vds, N-Channel Dual Cool PowerTrench MOSFET, 9.0mOhm Ron, 83nC Qgmax, -55 to 150 °C, 8x8mm MLP; ki_keywords: dual-cool-powertrench MOSFET fairchild; ki_fp_filters: PQFN*8x8*; Footprint: Package_TO_SOT_SMD:PQFN_8x8; Datasheet: https://www.onsemi.com/pub/Collateral/FDMT800152DC-D.pdf; Description_: 13A Id, 150V Vds, N-Channel Dual Cool PowerTrench MOSFET, 9.0mOhm Ron, 83nC Qgmax, -55 to 150 °C, 8x8mm MLP
pins: 1 G, 2 S, 3 D

## FDN340P
designator *  value FDN340P  Reference: Q
-2A Id, -20V Vds, P-Channel MOSFET, 70mOhm Ron, SOT-23; ki_fp_filters: SOT?23*; Footprint: Package_TO_SOT_SMD:SOT-23; Datasheet: https://www.onsemi.com/pub/Collateral/FDN340P-D.PDF; Description_: -2A Id, -20V Vds, P-Channel MOSFET, 70mOhm Ron, SOT-23; ki_keywords: P-Channel MOSFET
pins: 1 G (in), 2 S, 3 D

## FDS2734
designator *  value FDS2734  Reference: Q
3.0A Id, 250V Vds, N-Channel MOSFET, 117mOhm Ron, SOIC-8; ki_fp_filters: SOIC*3.9x4.9mm*P1.27mm*; Footprint: Package_SO:SOIC-8_3.9x4.9mm_P1.27mm; Datasheet: http://www.onsemi.com/pub/Collateral/FDS2734-D.pdf; Description_: 3.0A Id, 250V Vds, N-Channel MOSFET, 117mOhm Ron, SOIC-8; ki_keywords: N-Channel MOSFET
pins: 1 S, 2 S, 3 S, 4 G (in), 5 D, 6 D, 7 D, 8 D

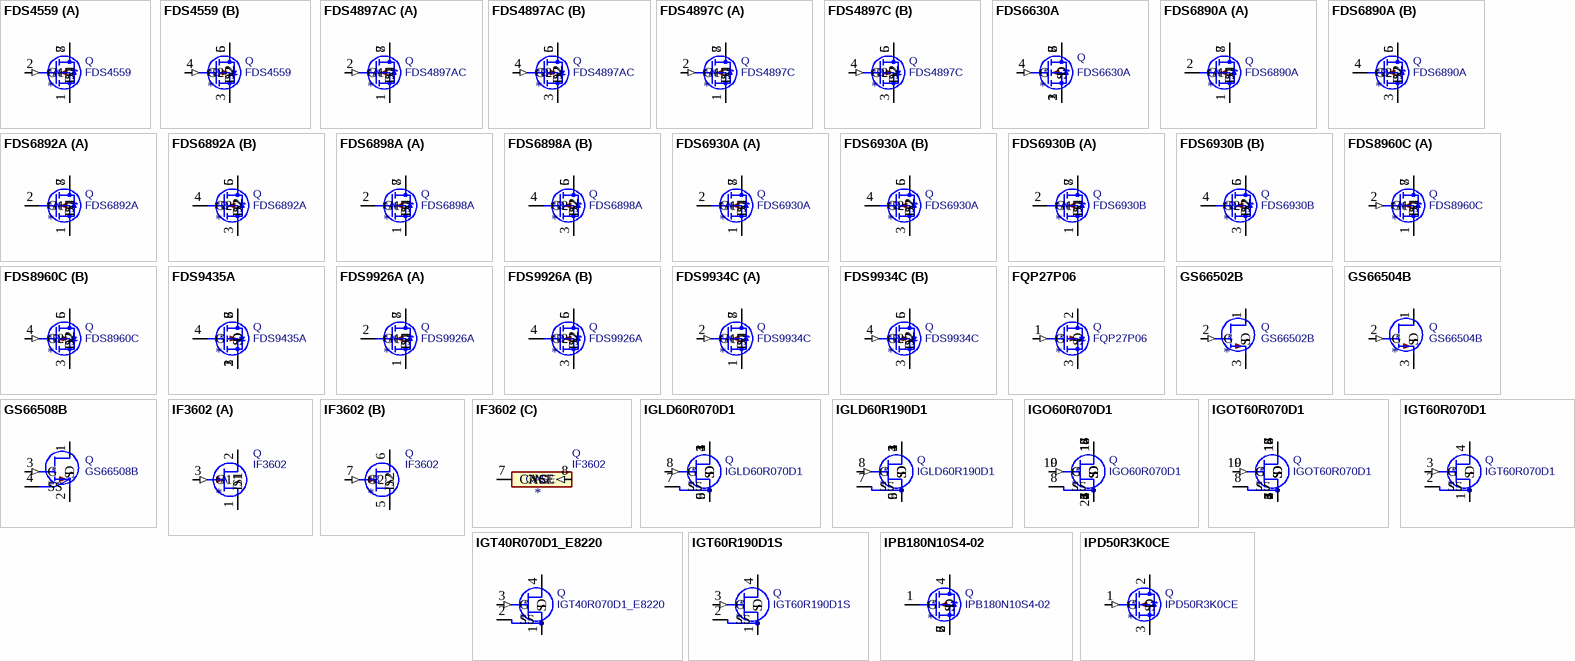
[diagram p8: symbols FDS4559 to IPD50R3K0CE]

## FDS4559
designator *  value FDS4559  Reference: Q
4.5A Id, 60V Vds, Dual N and P Channel MOSFET, 55mOhm Ron, 10V Vgs, SO8L; ki_keywords: Dual N-Channel P-Channel MOSFET; ki_fp_filters: SOIC*3.9x4.9mm*P1.27mm*; Footprint: Package_SO:SOIC-8_3.9x4.9mm_P1.27mm; Datasheet: https://www.onsemi.com/pub/Collateral/FDS4559-D.PDF; Description_: 4.5A Id, 60V Vds, Dual N and P Channel MOSFET, 55mOhm Ron, 10V Vgs, SO8L
part A pins: 1 S1, 2 G1 (in), 7 D1, 8 D1
part B pins: 3 S2, 4 G2 (in), 5 D2, 6 D2

## FDS4897AC
designator *  value FDS4897AC  Reference: Q
6.1A Id, 40V Vds, Dual N and P Channel MOSFET, 26mOhm Ron, 10V Vgs, SO8L; ki_keywords: Dual N-Channel P-Channel MOSFET; ki_fp_filters: SOIC*3.9x4.9mm*P1.27mm*; Footprint: Package_SO:SOIC-8_3.9x4.9mm_P1.27mm; Datasheet: https://www.onsemi.com/pub/Collateral/FDS4897AC-D.pdf; Description_: 6.1A Id, 40V Vds, Dual N and P Channel MOSFET, 26mOhm Ron, 10V Vgs, SO8L
part A pins: 1 S1, 2 G1 (in), 7 D1, 8 D1
part B pins: 3 S2, 4 G2 (in), 5 D2, 6 D2

## FDS4897C
designator *  value FDS4897C  Reference: Q
6.2A Id, 40V Vds, Dual N and P Channel MOSFET, 29mOhm Ron, 10V Vgs, SO8L; ki_keywords: Dual N-Channel P-Channel MOSFET; ki_fp_filters: SOIC*3.9x4.9mm*P1.27mm*; Footprint: Package_SO:SOIC-8_3.9x4.9mm_P1.27mm; Datasheet: https://www.onsemi.com/pub/Collateral/FDS4897C-D.pdf; Description_: 6.2A Id, 40V Vds, Dual N and P Channel MOSFET, 29mOhm Ron, 10V Vgs, SO8L
part A pins: 1 S1, 2 G1 (in), 7 D1, 8 D1
part B pins: 3 S2, 4 G2 (in), 5 D2, 6 D2

## FDS6630A
designator *  value FDS6630A  Reference: Q
6.5A Id, 30V Vds, N-Channel MOSFET, 38mOhm Ron, SOIC-8; ki_fp_filters: SOIC*3.9x4.9mm*P1.27mm*; Footprint: Package_SO:SOIC-8_3.9x4.9mm_P1.27mm; Datasheet: http://www.onsemi.com/pub/Collateral/FDS6630A-D.pdf; Description_: 6.5A Id, 30V Vds, N-Channel MOSFET, 38mOhm Ron, SOIC-8; ki_keywords: N-Channel MOSFET
pins: 1 S, 2 S, 3 S, 4 G (in), 5 D, 6 D, 7 D, 8 D

## FDS6890A
designator *  value FDS6890A  Reference: Q
7.5A Id, 20V Vds, Dual N-Channel MOSFET, 18mOhm Ron, SO-8; ki_fp_filters: SOIC*3.9x4.9mm*P1.27mm*; Footprint: Package_SO:SOIC-8_3.9x4.9mm_P1.27mm; Datasheet: https://www.onsemi.com/pub/Collateral/FDS6890A-D.PDF; Description_: 7.5A Id, 20V Vds, Dual N-Channel MOSFET, 18mOhm Ron, SO-8; ki_keywords: Dual N-Channel MOSFET
part A pins: 1 S1, 2 G1, 7 D1, 8 D1
part B pins: 3 S2, 4 G2, 5 D2, 6 D2

## FDS6892A
designator *  value FDS6892A  Reference: Q
7.5A Id, 20V Vds, Dual N-Channel MOSFET PWM Optimized, 18mOhm Ron, SO-8; ki_keywords: Dual N-Channel MOSFET Low Gate Charge; ki_fp_filters: SOIC*3.9x4.9mm*P1.27mm*; Footprint: Package_SO:SOIC-8_3.9x4.9mm_P1.27mm; Datasheet: https://www.onsemi.com/pub/Collateral/FDS6892A-D.pdf; Description_: 7.5A Id, 20V Vds, Dual N-Channel MOSFET PWM Optimized, 18mOhm Ron, SO-8
part A pins: 1 S1, 2 G1, 7 D1, 8 D1
part B pins: 3 S2, 4 G2, 5 D2, 6 D2

## FDS6898A
designator *  value FDS6898A  Reference: Q
9.4A Id, 20V Vds, Dual N-Channel MOSFET, 14mOhm Ron, SO-8; ki_fp_filters: SOIC*3.9x4.9mm*P1.27mm*; Footprint: Package_SO:SOIC-8_3.9x4.9mm_P1.27mm; Datasheet: https://www.onsemi.com/pub/Collateral/FDS6898A-D.PDF; Description_: 9.4A Id, 20V Vds, Dual N-Channel MOSFET, 14mOhm Ron, SO-8; ki_keywords: Dual N-Channel MOSFET
part A pins: 1 S1, 2 G1, 7 D1, 8 D1
part B pins: 3 S2, 4 G2, 5 D2, 6 D2

## FDS6930A
designator *  value FDS6930A  Reference: Q
5.5A Id, 30V Vds, Dual N-Channel Logic Level MOSFET, 40mOhm Ron, SO-8; ki_keywords: Dual N-Channel MOSFET; ki_fp_filters: SOIC*3.9x4.9mm*P1.27mm*; Footprint: Package_SO:SOIC-8_3.9x4.9mm_P1.27mm; Datasheet: http://www.onsemi.com/pub/Collateral/FDS6930A-D.PDF; Description_: 5.5A Id, 30V Vds, Dual N-Channel Logic Level MOSFET, 40mOhm Ron, SO-8
part A pins: 1 S1, 2 G1, 7 D1, 8 D1
part B pins: 3 S2, 4 G2, 5 D2, 6 D2

## FDS6930B
designator *  value FDS6930B  Reference: Q
5.5A Id, 30V Vds, Dual N-Channel Logic Level MOSFET, 38mOhm Ron, SO-8; ki_keywords: Dual N-Channel MOSFET; ki_fp_filters: SOIC*3.9x4.9mm*P1.27mm*; Footprint: Package_SO:SOIC-8_3.9x4.9mm_P1.27mm; Datasheet: http://www.onsemi.com/pub/Collateral/FDS6930B-D.PDF; Description_: 5.5A Id, 30V Vds, Dual N-Channel Logic Level MOSFET, 38mOhm Ron, SO-8
part A pins: 1 S1, 2 G1, 7 D1, 8 D1
part B pins: 3 S2, 4 G2, 5 D2, 6 D2

## FDS8960C
designator *  value FDS8960C  Reference: Q
7A Id, 35V Vds, Dual N and P Channel MOSFET, 24mOhm Ron, 10V Vgs, SO8L; ki_keywords: Dual N-Channel P-Channel MOSFET; ki_fp_filters: SOIC*3.9x4.9mm*P1.27mm*; Footprint: Package_SO:SOIC-8_3.9x4.9mm_P1.27mm; Datasheet: https://www.mouser.fr/datasheet/2/308/FDS8960C-D-1808807.pdf; Description_: 7A Id, 35V Vds, Dual N and P Channel MOSFET, 24mOhm Ron, 10V Vgs, SO8L
part A pins: 1 S1, 2 G1 (in), 7 D1, 8 D1
part B pins: 3 S2, 4 G2 (in), 5 D2, 6 D2

## FDS9435A
designator *  value FDS9435A  Reference: Q
-5.3A Id, -30V Vds, P-Channel MOSFET, 50mOhm Ron, SO-8; ki_fp_filters: SOIC*3.9x4.9mm*P1.27mm*; Footprint: Package_SO:SOIC-8_3.9x4.9mm_P1.27mm; Datasheet: https://www.onsemi.com/pub/Collateral/FDS9435A-D.PDF; Description_: -5.3A Id, -30V Vds, P-Channel MOSFET, 50mOhm Ron, SO-8; ki_keywords: P-Channel MOSFET
pins: 1 S, 2 S, 3 S, 4 G, 5 D, 6 D, 7 D, 8 D

## FDS9926A
designator *  value FDS9926A  Reference: Q
6.5A Id, 20V Vds, Dual N-Channel MOSFET, 30mOhm Ron, SO-8; ki_fp_filters: SOIC*3.9x4.9mm*P1.27mm*; Footprint: Package_SO:SOIC-8_3.9x4.9mm_P1.27mm; Datasheet: https://www.onsemi.com/pub/Collateral/FDS9926A-D.pdf; Description_: 6.5A Id, 20V Vds, Dual N-Channel MOSFET, 30mOhm Ron, SO-8; ki_keywords: Dual N-Channel MOSFET
part A pins: 1 S1, 2 G1, 7 D1, 8 D1
part B pins: 3 S2, 4 G2, 5 D2, 6 D2

## FDS9934C
designator *  value FDS9934C  Reference: Q
6.5A Id, 20V Vds, Dual N and P Channel MOSFET, 30mOhm Ron, 4.5V Vgs, SO8L; ki_keywords: Dual N-Channel P-Channel MOSFET; ki_fp_filters: SOIC*3.9x4.9mm*P1.27mm*; Footprint: Package_SO:SOIC-8_3.9x4.9mm_P1.27mm; Datasheet: https://www.onsemi.com/pub/Collateral/FDS9934C-D.pdf; Description_: 6.5A Id, 20V Vds, Dual N and P Channel MOSFET, 30mOhm Ron, 4.5V Vgs, SO8L
part A pins: 1 S1, 2 G1 (in), 7 D1, 8 D1
part B pins: 3 S2, 4 G2 (in), 5 D2, 6 D2

## FQP27P06
designator *  value FQP27P06  Reference: Q
-27A Id, -60V Vds, QFET P-Channel MOSFET, TO-220; ki_fp_filters: TO?220*; Footprint: Package_TO_SOT_THT:TO-220-3_Vertical; Datasheet: https://www.onsemi.com/pub/Collateral/FQP27P06-D.PDF; Description_: -27A Id, -60V Vds, QFET P-Channel MOSFET, TO-220; ki_keywords: QFET P-Channel MOSFET
pins: 1 G (in), 2 D, 3 S

## GS66502B
designator *  value GS66502B  Reference: Q
Bottom-side cooled 650 V E-mode GaN transistor, 7.5A Id, GaN_PX; ki_keywords: gan hemt bottom-side-cooled enhancement-mode; ki_fp_filters: GaN?Systems?GaNPX*5x6.6mm*Drain2.93x0.6mm*; Footprint: Transistor_Power:GaN_Systems_GaNPX-3_5x6.6mm_Drain2.93x0.6mm; Datasheet: https://gansystems.com/wp-content/uploads/2020/04/GS66502B-DS-Rev-200402.pdf; Description_: Bottom-side cooled 650 V E-mode GaN transistor, 7.5A Id, GaN_PX
pins: 1 D, 2 G (in), 3 S

## GS66504B
designator *  value GS66504B  Reference: Q
Bottom-side cooled 650 V E-mode GaN transistor, 15A Id, GaN_PX; ki_keywords: gan hemt bottom-side-cooled enhancement-mode; ki_fp_filters: GaN?Systems?GaNPX*5x6.6mm*Drain3.76x0.6mm*; Footprint: Transistor_Power:GaN_Systems_GaNPX-3_5x6.6mm_Drain3.76x0.6mm; Datasheet: https://gansystems.com/wp-content/uploads/2020/04/GS66504B-DS-Rev-200402.pdf; Description_: Bottom-side cooled 650 V E-mode GaN transistor, 15A Id, GaN_PX
pins: 1 D, 2 G (in), 3 S

## GS66508B
designator *  value GS66508B  Reference: Q
Bottom-side cooled 650 V E-mode GaN transistor, 30A Id, GaN_PX; ki_keywords: gan hemt bottom side cooled 650v enhancement mode 30a Id; ki_fp_filters: GaN?Systems?GaNPX*7x8.4mm*; Footprint: Transistor_Power:GaN_Systems_GaNPX-4_7x8.4mm; Datasheet: https://gansystems.com/wp-content/uploads/2020/04/GS66508B-DS-Rev-200402.pdf; Description_: Bottom-side cooled 650 V E-mode GaN transistor, 30A Id, GaN_PX
pins: 1 D, 2 S, 3 G (in), 4 SS

## IF3602
designator *  value IF3602  Reference: Q
Ultra Low Noise: 0.35 nV/√Hz Typical, Dual Matched N-Channel JFET, TO-78-8; ki_keywords: ultra low noise dual matched n-channel jfet; ki_fp_filters: TO?78?8*; Footprint: Package_TO_SOT_THT:TO-78-8; Datasheet: https://www.interfet.com/jfet-datasheets/jfet-if3602-interfet.pdf; Description_: Ultra Low Noise: 0.35 nV/√Hz Typical, Dual Matched N-Channel JFET, TO-78-8
part A pins: 1 S1, 2 D1, 3 G1 (in)
part B pins: 5 S2, 6 D2, 7 G2 (in)
part C pins: 7 CASE, 8 NC (in)

## IGLD60R070D1
designator *  value IGLD60R070D1  Reference: Q
15A Id, 600V Vds, 70mOhm, N-Channel GaN MOSFET, LSON-8; ki_fp_filters: Infineon*PG*LSON*1*; Footprint: Package_SON:Infineon_PG-LSON-8-1; Datasheet: https://www.infineon.com/dgdl/Infineon-IGLD60R070D1-DataSheet-v02_00-EN.pdf?fileId=5546d46265f064ff016685f03f056511; Description_: 15A Id, 600V Vds, 70mOhm, N-Channel GaN MOSFET, LSON-8; ki_keywords: N-Channel GaN MOSFET
pins: 1 D, 2 D, 3 D, 4 D, 5 S, 6 S, 7 SS, 8 G (in), 9 S

## IGLD60R190D1
designator *  value IGLD60R190D1  Reference: Q
10A Id, 600V Vds, 190mOhm, N-Channel GaN MOSFET, LSON-8; ki_fp_filters: Infineon*PG*LSON*1*; Footprint: Package_SON:Infineon_PG-LSON-8-1; Datasheet: https://www.infineon.com/dgdl/Infineon-IGLD60R190D1-DataSheet-v02_00-EN.pdf?fileId=5546d46269e1c019016a6d78ff5e2aba; Description_: 10A Id, 600V Vds, 190mOhm, N-Channel GaN MOSFET, LSON-8; ki_keywords: N-Channel GaN MOSFET
pins: 1 D, 2 D, 3 D, 4 D, 5 S, 6 S, 7 SS, 8 G (in), 9 S

## IGO60R070D1
designator *  value IGO60R070D1  Reference: Q
31A Id, 600V Vds, 70mOhm, N-Channel GaN MOSFET, PD-DSO-20-85; ki_fp_filters: Infineon*PG*DSO*85*; Footprint: Package_SO:Infineon_PG-DSO-20-85; Datasheet: https://www.infineon.com/dgdl/Infineon-IGO60R070D1-DataSheet-v02_01-EN.pdf?fileId=5546d46265f064ff016685f053216514; Description_: 31A Id, 600V Vds, 70mOhm, N-Channel GaN MOSFET, PD-DSO-20-85; ki_keywords: N-Channel GaN MOSFET
pins: 1 S, 2 S, 3 S, 4 S, 5 S, 6 S, 7 S, 8 SS, 9 G (in), 10 G (in), 13 D, 14 D, 15 D, 16 D, 17 D, 18 D, 21 S

## IGOT60R070D1
designator *  value IGOT60R070D1  Reference: Q
31A Id, 600V Vds, 70mOhm, N-Channel GaN MOSFET, PD-DSO-20-87; ki_fp_filters: Infineon*PG*DSO*87*; Footprint: Package_SO:Infineon_PG-DSO-20-87; Datasheet: https://www.infineon.com/dgdl/Infineon-IGOT60R070D1-DataSheet-v02_11-EN.pdf?fileId=5546d46265f064ff016685fa65066523; Description_: 31A Id, 600V Vds, 70mOhm, N-Channel GaN MOSFET, PD-DSO-20-87; ki_keywords: N-Channel GaN MOSFET
pins: 1 S, 2 S, 3 S, 4 S, 5 S, 6 S, 7 S, 8 SS, 9 G (in), 10 G (in), 13 D, 14 D, 15 D, 16 D, 17 D, 18 D

## IGT40R070D1_E8220
designator *  value IGT40R070D1_E8220  Reference: Q
31A Id, 400V Vds, 70mOhm, N-Channel GaN MOSFET, HSOF-8; ki_fp_filters: Infineon*PG*HSOF*3*; Footprint: Package_TO_SOT_SMD:Infineon_PG-HSOF-8-3_ThermalVias; Datasheet: https://www.infineon.com/dgdl/Infineon-IGT40R070D1%20E8220-DataSheet-v02_00-EN.pdf?fileId=5546d4626afcd350016b269dd8f34ec4; Description_: 31A Id, 400V Vds, 70mOhm, N-Channel GaN MOSFET, HSOF-8; ki_keywords: N-Channel GaN MOSFET
pins: 1 S, 2 SS, 3 G (in), 4 D

## IGT60R070D1
designator *  value IGT60R070D1  Reference: Q
31A Id, 600V Vds, 70mOhm, N-Channel GaN MOSFET, HSOF-8; ki_fp_filters: Infineon*PG*HSOF*3*; Footprint: Package_TO_SOT_SMD:Infineon_PG-HSOF-8-3_ThermalVias; Datasheet: https://www.infineon.com/dgdl/Infineon-IGT60R070D1-DataSheet-v02_01-EN.pdf?fileId=5546d46265f064ff016686028dd56526; Description_: 31A Id, 600V Vds, 70mOhm, N-Channel GaN MOSFET, HSOF-8; ki_keywords: N-Channel GaN MOSFET
pins: 1 S, 2 SS, 3 G (in), 4 D

## IGT60R190D1S
designator *  value IGT60R190D1S  Reference: Q
12.5A Id, 600V Vds, 190mOhm, N-Channel GaN MOSFET, HSOF-8; ki_fp_filters: Infineon*PG*HSOF*3*; Footprint: Package_TO_SOT_SMD:Infineon_PG-HSOF-8-3_ThermalVias; Datasheet: https://www.infineon.com/dgdl/Infineon-IGT60R190D1S-DataSheet-v03_01-EN.pdf?fileId=5546d46265f064ff016685fa29796520; Description_: 12.5A Id, 600V Vds, 190mOhm, N-Channel GaN MOSFET, HSOF-8; ki_keywords: N-Channel GaN MOSFET
pins: 1 S, 2 SS, 3 G (in), 4 D

## IPB180N10S4-02
designator *  value IPB180N10S4-02  Reference: Q
180A Id, 100V Vds, OptiMOS-T2 N-Channel Power MOSFET, 2.5mOhm Ron, Qg (typ) 156nC, TO-263-6; ki_keywords: OptiMOS-T2 Power MOSFET N-MOS; ki_fp_filters: TO?263?6*; Footprint: Package_TO_SOT_SMD:TO-263-6; Datasheet: https://www.infineon.com/dgdl/Infineon-IPB180N10S4_02-DS-v01_00-en.pdf?fileId=db3a30433d1d0bbe013d2129cf8a2f88; Description_: 180A Id, 100V Vds, OptiMOS-T2 N-Channel Power MOSFET, 2.5mOhm Ron, Qg (typ) 156nC, TO-263-6
pins: 1 G, 2 S, 3 S, 4 D, 5 S, 6 S, 7 S